# EAGLE library part RESISTOR-ARRAY-4 (library Jordi)
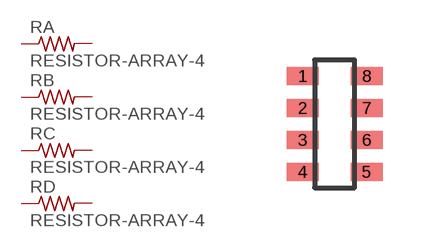
[diagram p16: symbol with the pads of RESISTOR-ARRAY-4X0603; footprint RESISTOR-ARRAY-4X0603]

Designator prefix R; gates A=RESISTOR B=RESISTOR C=RESISTOR D=RESISTOR

## RESISTOR-ARRAY-40603  [RESISTOR-ARRAY-4X0603]
1  A:1  pas
2  B:1  pas
3  C:1  pas
4  D:1  pas
5  D:2  pas
6  C:2  pas
7  B:2  pas
8  A:2  pas

## Footprint RESISTOR-ARRAY-4X0603 (pad centres in mm)
Digikey Part <http://www.digikey.com/product-detail/en/EXB-38V102JV/Y9102CT-ND/256592>
smd 0.8 x 0.45: 1 -0.8,1.2; 2 -0.8,0.4; 3 -0.8,-0.4; 4 -0.8,-1.2; 5 0.8,-1.2; 6 0.8,-0.4; 7 0.8,0.4; 8 0.8,1.2